# Altium schematic symbol library OpAmps.SchLib: 1 symbol
Pins are listed as number, name and electrical type; pins without a type are passive.

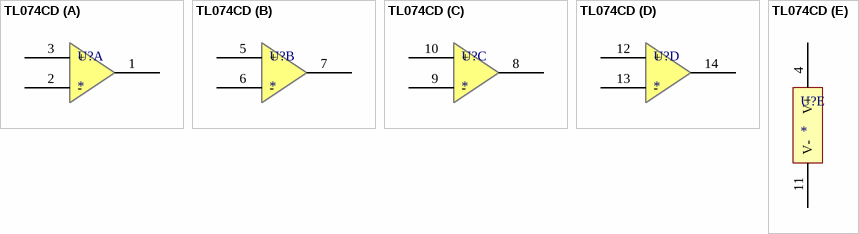
[diagram p0: symbol TL074CD]

## TL074CD
designator U?
STMicro Quad op-amp, 3MHz, 14SOIC
footprint SOIC127P600X175-14N (SOIC, 14-Leads, Body 8.65x3.90mm, Pitch 1.27mm, IPC Medium Density)
part A pins: 1 O, 2 -, 3 +
part B pins: 5 +, 6 -, 7 O
part C pins: 8 O, 9 -, 10 +
part D pins: 12 +, 13 -, 14 O
part E pins: 4 V+, 11 V-